# EAGLE library part SSM-120-L-DV (library Labops_Lib_AH)
CONN, SOCKET,40WAY, 2ROW ,SMT
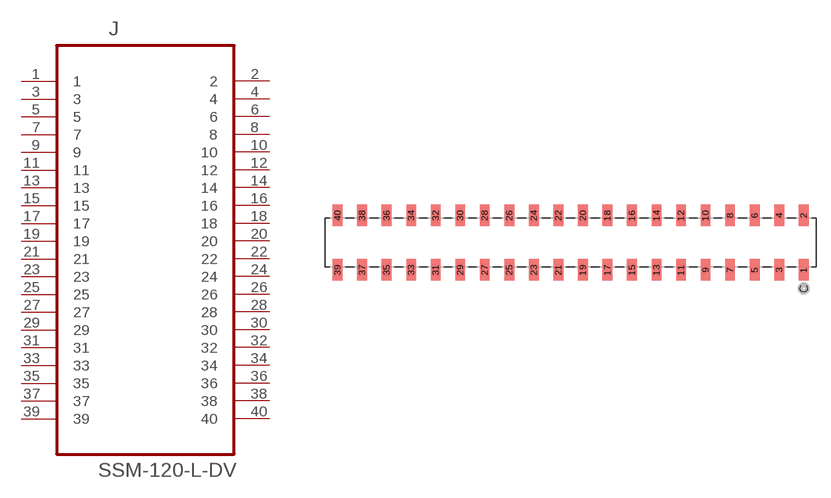
[diagram p6: symbol with the pads of SAMTEC_SSM-120-L-DV; footprint SAMTEC_SSM-120-L-DV]

Designator prefix J

## SSM-120-L-DV (MPN: SSM-120-L-DV; OC_FARNELL: 1668272; OC_NEWARK: 11P7981; PACKAGE: SMT,SOCKET, 40WAY, 2ROW; SUPPLIER: SAMTEC)  [SAMTEC_SSM-120-L-DV]
1  1  pas
2  2  pas
3  3  pas
4  4  pas
5  5  pas
6  6  pas
7  7  pas
8  8  pas
9  9  pas
10  10  pas
11  11  pas
12  12  pas
13  13  pas
14  14  pas
15  15  pas
16  16  pas
17  17  pas
18  18  pas
19  19  pas
20  20  pas
21  21  pas
22  22  pas
23  23  pas
24  24  pas
25  25  pas
26  26  pas
27  27  pas
28  28  pas
29  29  pas
30  30  pas
31  31  pas
32  32  pas
33  33  pas
34  34  pas
35  35  pas
36  36  pas
37  37  pas
38  38  pas
39  39  pas
40  40  pas

## Footprint SAMTEC_SSM-120-L-DV (pad centres in mm)
smd 1.016 x 2.21: 1 48.26,-5.639; 2 48.26,0; 3 45.72,-5.639; 4 45.72,0; 5 43.18,-5.639; 6 43.18,0; 7 40.64,-5.639; 8 40.64,0; 9 38.1,-5.639; 10 38.1,0; 11 35.56,-5.639; 12 35.56,0; 13 33.02,-5.639; 14 33.02,0; 15 30.48,-5.639; 16 30.48,0; 17 27.94,-5.639; 18 27.94,0; 19 25.4,-5.639; 20 25.4,0; 21 22.86,-5.639; 22 22.86,0; 23 20.32,-5.639; 24 20.32,0; 25 17.78,-5.639; 26 17.78,0; 27 15.24,-5.639; 28 15.24,0; 29 12.7,-5.639; 30 12.7,0; 31 10.16,-5.639; 32 10.16,0; 33 7.62,-5.639; 34 7.62,0; 35 5.08,-5.639; 36 5.08,0; 37 2.54,-5.639; 38 2.54,0; 39 0,-5.639; 40 0,0